# EAGLE library part DIL_PINHEAD_10 (library fram)
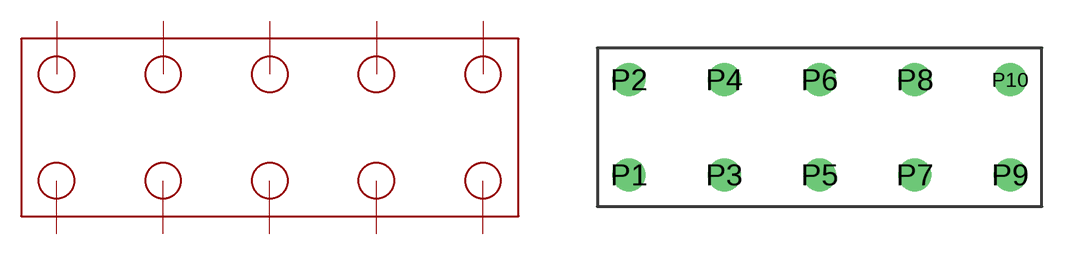
[diagram p1: symbol with the pads of DIL_PIN_10; footprint DIL_PIN_10]

Designator prefix -

## DIL_PINHEAD_10  [DIL_PIN_10]
P1  P$10  pas
P2  P$1  pas
P3  P$9  pas
P4  P$2  pas
P5  P$8  pas
P6  P$3  pas
P7  P$7  pas
P8  P$4  pas
P9  P$6  pas
P10  P$5  pas

## Footprint DIL_PIN_10 (pad centres in mm)
drill 0.8 round: P1 -7.62,-1.27; P2 -7.62,2.54; P3 -3.81,-1.27; P4 -3.81,2.54; P5 0,-1.27; P6 0,2.54; P7 3.81,-1.27; P8 3.81,2.54; P9 7.62,-1.27; P10 7.62,2.54